# EAGLE library part HEADER-1X12 (library Header and Connector)
Header - 1X12
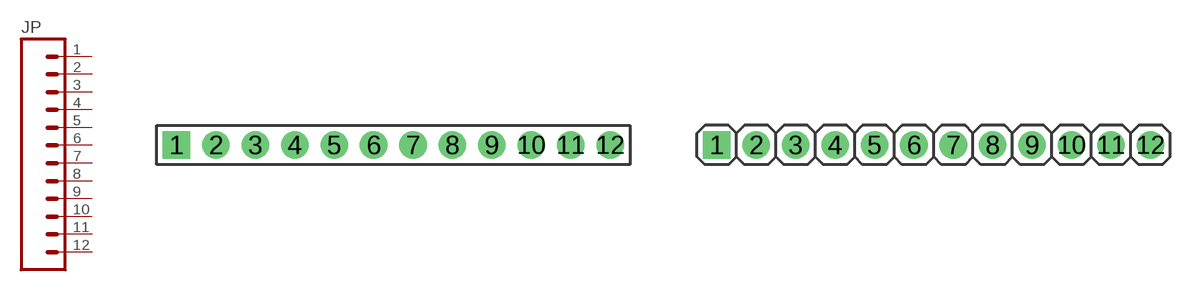
[diagram p7: symbol with the pads of HDR-F1X12; footprints HDR-F1X12, HDR-M1X12]

Designator prefix JP

## HEADER-1X12_(FEMALE) (CYTRON-PC: CN-PH-F140S; DESC: Female Header - 1x40 Ways; VALUE: 12/40 Ways)  [HDR-F1X12]
1  1  pas
2  2  pas
3  3  pas
4  4  pas
5  5  pas
6  6  pas
7  7  pas
8  8  pas
9  9  pas
10  10  pas
11  11  pas
12  12  pas

## HEADER-1X12_(MALE) (CYTRON-PC: CN-PH-M140S; DESC: Male Header - 1x40 Ways; VALUE: 12/40 Ways)  [HDR-M1X12]
Pads as for HDR-F1X12

## Footprint HDR-F1X12 (pad centres in mm)
Female Header - 1X12
drill 1 pad 1.778 square: 1 0,0
drill 1 pad 1.778: 2 2.54,0; 3 5.08,0; 4 7.62,0; 5 10.16,0; 6 12.7,0; 7 15.24,0; 8 17.78,0; 9 20.32,0; 10 22.86,0; 11 25.4,0; 12 27.94,0

## Footprint HDR-M1X12 (pad centres in mm)
Male Header - 1x12
drill 1 pad 1.778 square: 1 0,0
drill 1 pad 1.778: 2 2.54,0; 3 5.08,0; 4 7.62,0; 5 10.16,0; 6 12.7,0; 7 15.24,0; 8 17.78,0; 9 20.32,0; 10 22.86,0; 11 25.4,0; 12 27.94,0